# Altium schematic symbol library CTrimer.Schlib: 1 symbol
Pins are listed as number, name and electrical type; pins without a type are passive.

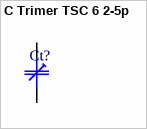
[diagram p0: symbol C Trimer TSC 6 2-5p]

## C Trimer TSC 6 2-5p
designator Ct?
TH 6mm    2-5p   NP0     Q500 200V
pins: 1, 2
1 alternate drawing of the same symbol